# EAGLE library part OP27 (library MyLockIn)
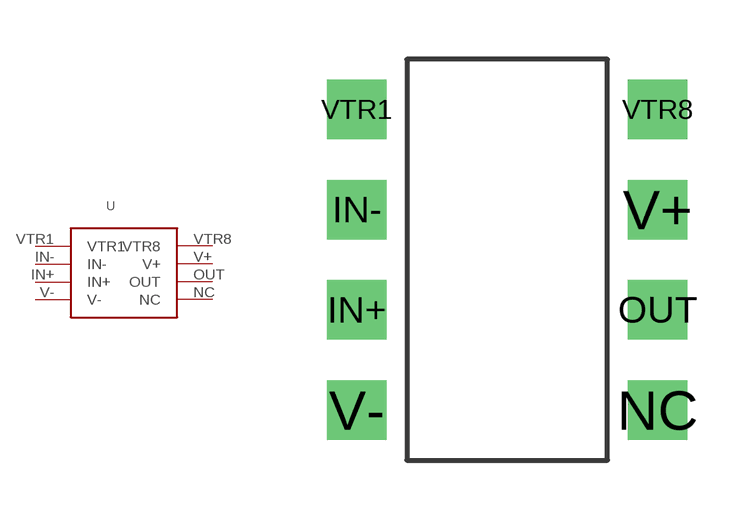
[diagram p2: symbol with the pads of OP27; footprint OP27]

Designator prefix -

## OP27  [OP27]
IN+  IN+
IN-  IN-
NC  NC
OUT  OUT
V+  V+
V-  V-
VTR1  VTR1
VTR8  VTR8

## Footprint OP27 (pad centres in mm)
drill 1 square: IN+ -2.54,0; IN- -2.54,2.54; NC 5.08,-2.54; OUT 5.08,0; V+ 5.08,2.54; V- -2.54,-2.54; VTR1 -2.54,5.08; VTR8 5.08,5.08